# Altium footprint library DIN_connectors.PcbLib: 1 footprints
Each footprint in its own frame and in the unit in brackets; x right, y up, seen from the top. Pads: shape width x height; smd on the part's side, far side on the other; paste and mask are expansions set on the pad; w line width, h text height; cw(c..) or ccw(c..) is an arc to the next point about the centre after c.
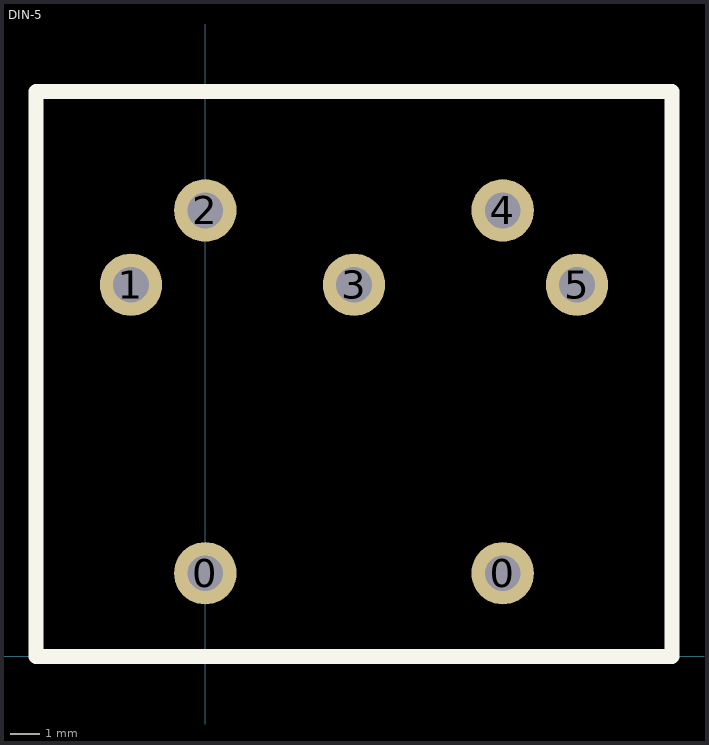
[diagram p0: the footprint, top view; thin cyan lines are the x and y axes]

## DIN-5 [mm] "midi connector"
height 19.7
pads (7):
  round 2.1 hole 1.2: 0(0,2.8) 0(10,2.8) 1(-2.5,12.5) 2(0,15) 3(5,12.5) 4(10,15) 5(12.5,12.5)
Top Overlay:
  lines w0.5: -5.7,0 -5.7,19 15.7,19 15.7,0 -5.7,0